# EAGLE library part SARA-U2XX (library GeneralLib)
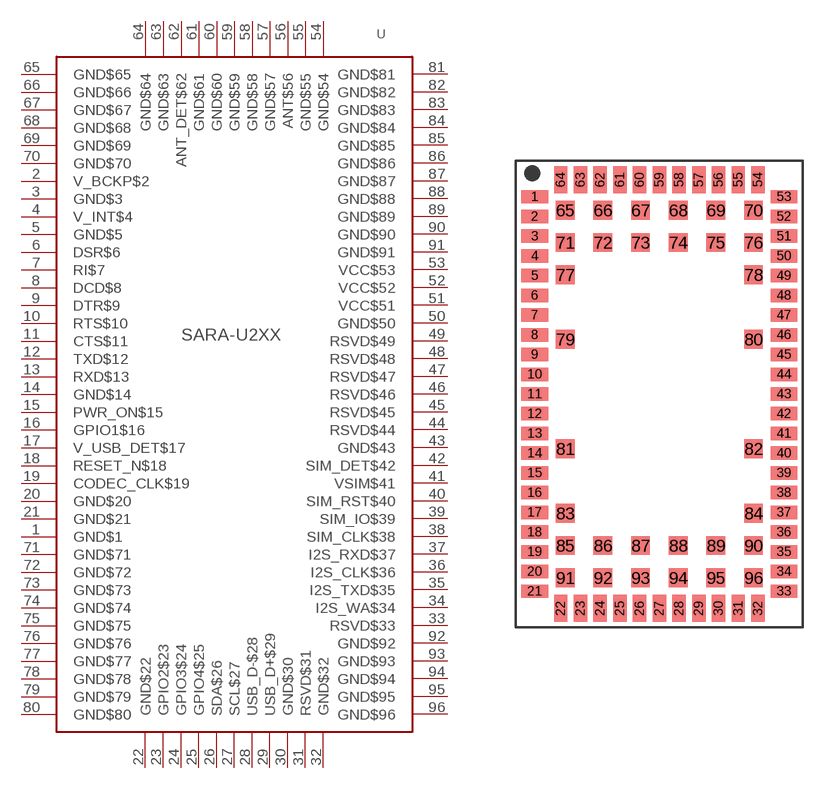
[diagram p0: symbol with the pads of 91-PIN_LGA; footprint 91-PIN_LGA]

Designator prefix U

## SARA-U2XX (MFG: U-BLOX; PACKAGE: LGA-91; PARTNUMBER: SARA-U270)  [91-PIN_LGA]
1  GND$1
2  V_BCKP$2
3  GND$3
4  V_INT$4
5  GND$5
6  DSR$6
7  RI$7
8  DCD$8
9  DTR$9
10  RTS$10
11  CTS$11
12  TXD$12  pwr
13  RXD$13
14  GND$14
15  PWR_ON$15
16  GPIO1$16
17  V_USB_DET$17
18  RESET_N$18
19  CODEC_CLK$19
20  GND$20
21  GND$21
22  GND$22  pwr
23  GPIO2$23  pwr
24  GPIO3$24
25  GPIO4$25  pwr
26  SDA$26  pwr
27  SCL$27  pwr
28  USB_D-$28  pwr
29  USB_D+$29  pwr
30  GND$30
31  RSVD$31  pwr
32  GND$32  pwr
33  RSVD$33  pwr
34  I2S_WA$34  pwr
35  I2S_TXD$35  pwr
36  I2S_CLK$36
37  I2S_RXD$37
38  SIM_CLK$38  pwr
39  SIM_IO$39  pwr
40  SIM_RST$40  pwr
41  VSIM$41
42  SIM_DET$42
43  GND$43
44  RSVD$44
45  RSVD$45
46  RSVD$46
47  RSVD$47
48  RSVD$48
49  RSVD$49
50  GND$50
51  VCC$51
52  VCC$52
53  VCC$53
54  GND$54  pwr
55  GND$55  pwr
56  ANT$56  pwr
57  GND$57  pwr
58  GND$58  pwr
59  GND$59  pwr
60  GND$60  pwr
61  GND$61  pwr
62  ANT_DET$62  pwr
63  GND$63  pwr
64  GND$64  pwr
65  GND$65
66  GND$66
67  GND$67
68  GND$68
69  GND$69
70  GND$70
71  GND$71
72  GND$72
73  GND$73
74  GND$74
75  GND$75
76  GND$76
77  GND$77
78  GND$78
79  GND$79
80  GND$80
81  GND$81
82  GND$82
83  GND$83
84  GND$84
85  GND$85
86  GND$86
87  GND$87
88  GND$88
89  GND$89
90  GND$90
91  GND$91
92  GND$92
93  GND$93
94  GND$94
95  GND$95
96  GND$96

## Footprint 91-PIN_LGA (pad centres in mm)
smd 1.5 x 0.75: 1 -6.95,11; 2 -6.95,9.9; 3 -6.95,8.8; 4 -6.95,7.7; 5 -6.95,6.6; 6 -6.95,5.5; 7 -6.95,4.4; 8 -6.95,3.3; 9 -6.95,2.2; 10 -6.95,1.1; 11 -6.95,0; 12 -6.95,-1.1; 13 -6.95,-2.2; 14 -6.95,-3.3; 15 -6.95,-4.4; 16 -6.95,-5.5; 17 -6.95,-6.6; 18 -6.95,-7.7; 19 -6.95,-8.8; 20 -6.95,-9.9; 21 -6.95,-11; 33 6.95,-11; 34 6.95,-9.9; 35 6.95,-8.8; 36 6.95,-7.7; 37 6.95,-6.6; 38 6.95,-5.5; 39 6.95,-4.4; 40 6.95,-3.3; 41 6.95,-2.2; 42 6.95,-1.1; 43 6.95,0; 44 6.95,1.1; 45 6.95,2.2; 46 6.95,3.3; 47 6.95,4.4; 48 6.95,5.5; 49 6.95,6.6; 50 6.95,7.7; 51 6.95,8.8; 52 6.95,9.9; 53 6.95,11
smd 0.75 x 1.5: 22 -5.5,-11.95; 23 -4.4,-11.95; 24 -3.3,-11.95; 25 -2.2,-11.95; 26 -1.1,-11.95; 27 0,-11.95; 28 1.1,-11.95; 29 2.2,-11.95; 30 3.3,-11.95; 31 4.4,-11.95; 32 5.5,-11.95; 54 5.5,11.95; 55 4.4,11.95; 56 3.3,11.95; 57 2.2,11.95; 58 1.1,11.95; 59 0,11.95; 60 -1.1,11.95; 61 -2.2,11.95; 62 -3.3,11.95; 63 -4.4,11.95; 64 -5.5,11.95
smd 1.05 x 1.05: 65 -5.25,10.25; 66 -3.15,10.25; 67 -1.05,10.25; 68 1.05,10.25; 69 3.15,10.25; 70 5.25,10.25; 71 -5.25,8.45; 72 -3.15,8.45; 73 -1.05,8.45; 74 1.05,8.45; 75 3.15,8.45; 76 5.25,8.45; 77 -5.25,6.65; 78 5.25,6.65; 79 -5.25,3.05; 80 5.25,3.05; 81 -5.25,-3.05; 82 5.25,-3.05; 83 -5.25,-6.65; 84 5.25,-6.65; 85 -5.25,-8.45; 86 -3.15,-8.45; 87 -1.05,-8.45; 88 1.05,-8.45; 89 3.15,-8.45; 90 5.25,-8.45; 91 -5.25,-10.25; 92 -3.15,-10.25; 93 -1.05,-10.25; 94 1.05,-10.25; 95 3.15,-10.25; 96 5.25,-10.25